# Altium integrated library Bpod_Controller_v5.IntLib: 11 symbols
Pins are listed as number, name and electrical type; pins without a type are passive.

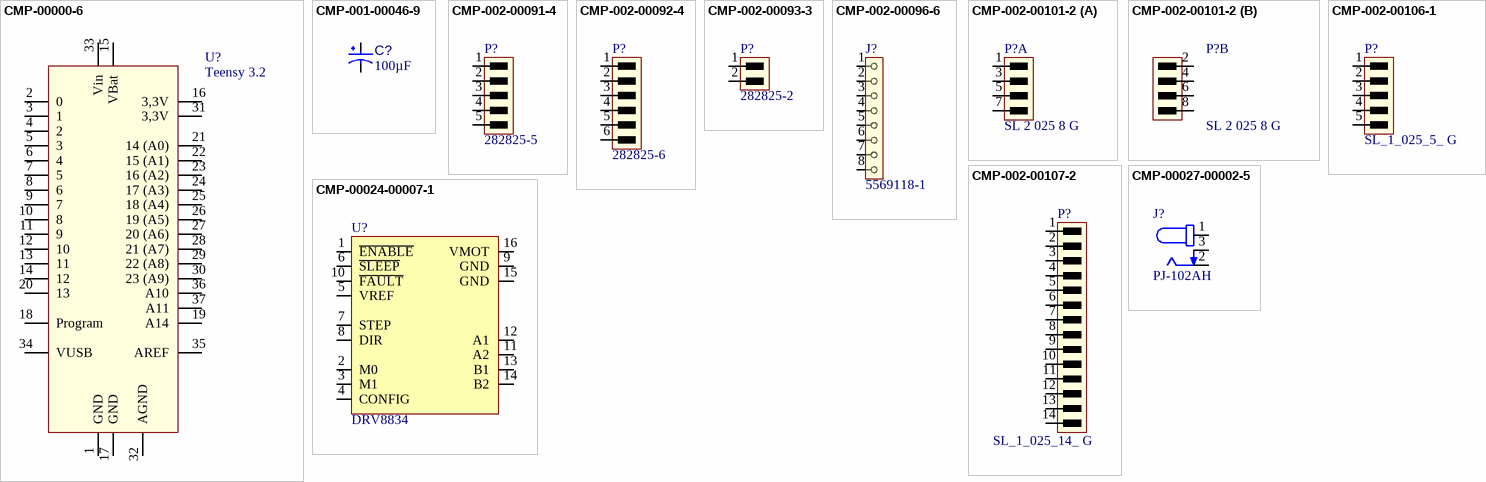
[diagram p0: symbols CMP-00000-6 to CMP-00027-00002-5]

## CMP-00000-6
designator U?, comment Teensy 3.2
Development Boards & Kits, ARM Teensy 3.2 and header; Manufacturer: Adafruit Industries; Manufacturer Part Number: 2756; Manufacturer: SparkFun; Manufacturer Part Number: DEV-13736; user: IBI-TAE; Component Type: Microcontroller
footprint New footprint 1
pins: 1 GND, 2 0, 3 1, 4 2, 5 3, 6 4, 7 5, 8 6, 9 7, 10 8, 11 9, 12 10, 13 11, 14 12, 15 VBat, 16 3,3V, 17 GND, 18 Program, 19 A14, 20 13, 21 14 (A0), 22 15 (A1), 23 16 (A2), 24 17 (A3), 25 18 (A4), 26 19 (A5), 27 20 (A6), 28 21 (A7), 29 22 (A8), 30 23 (A9), 31 3,3V, 32 AGND, 33 Vin (power), 34 VUSB, 35 AREF, 36 A10, 37 A11

## CMP-001-00046-9
designator C?, comment value 100µF  (hidden comment: TAJC107K016RNJ)
Standard Tantalum, 100 uF, +/- 10%, 16 V, -55 to 125 degC, 2312 (6032 Metric), RoHS, Tape and Reel; Manufacturer: AVX; Manufacturer: Kyocera / AVX; Voltage Rating: 16V; Resistance: 1Ohm; Package Quantity: 500; Max Operating Temperature: 125°C; Datasheet URL: http://datasheets.avx.com/TAJ.pdf; Case/Package: 2412; RoHS Compliant: True; Tolerance: 10%; Manufacturer URL: http://www.avx.com/; Packaging: TapeandReel; Package Reference: TAJ-C-2; Min Operating Temperature: -55°C; Package Description: 2-Pin Surface Mount Device, Body 6 x 3.25 mm; Mounting Technology: SM; ESR: 1Ohm; Capacitor Type: Tantalum; Datasheet Version: Feb-16; Manufacturer Part Number: TAJC107K016RNJ; Component Type: Capacitors
footprint AVX-TAJ-C-2_M (Molded Capacitor, 2-Leads, Body 6.2x3.4mm, IPC Low Density)
footprint AVX-TAJ-C-2_L (Molded Capacitor, 2-Leads, Body 6.2x3.4mm, IPC High Density)
footprint AVX-TAJ-C-2_N (Molded Capacitor, 2-Leads, Body 6.2x3.4mm, IPC Medium Density)
pins: 1, 2

## CMP-002-00091-4
designator P?, comment 282825-5
Strip Terminal Block, 15A, 1 Row(s), 1 Deck(s); Manufacturer: TE Connectivity / AMP; Connector Type: Pluggable Terminal Block; user: IBI-TAE; Gender: male; Voltage Rating: 300V; Pins: 5; Mounting Technology: Board; RoHS Compliant: Yes; Max Current Rating: 15A; Manufacturer Part Number: 282825-5; Component Type: Connectors
footprint 282825-4-Footprint-1
pins: 1, 2, 3, 4, 5

## CMP-002-00092-4
designator P?, comment 282825-6
Strip Terminal Block, 15A, 1 Row(s), 1 Deck(s); Manufacturer: TE Connectivity / AMP; Gender: male; Connector Type: Pluggable Terminal Block; Voltage Rating: 300V; user: IBI-TAE; Pins: 6; Max Current Rating: 15A; RoHS Compliant: Yes; Mounting Technology: Board; Manufacturer Part Number: 282825-6; Component Type: Connectors
footprint 282825-4-Footprint-1
pins: 1, 2, 3, 4, 5, 6

## CMP-002-00093-3
designator P?, comment 282825-2
Strip Terminal Block, 15A, 1 Row(s), 1 Deck(s); Manufacturer: TE Connectivity; Gender: male; Connector Type: Pluggable Terminal Block; user: IBI-TAE; Voltage Rating: 300V; RoHS Compliant: Yes; Max Current Rating: 15A; Mounting Technology: Board; Pins: 4; Manufacturer Part Number: 282825-2; Component Type: Connectors
footprint 282825-4-Footprint-1
pins: 1, 2

## CMP-002-00096-6
designator J?, comment 5569118-1
Telecom and Datacom Connector, 8 Contact(s), Female, Right Angle, Solder Terminal, Locking, Jack; Manufacturer: TE Connectivity; User: IBI-TAE; RoHS Compliant: Yes; Min Operating Temperature: -40°C; Mounting Technology: Panel,Board; Max Operating Temperature: 85°C; Connector Type: TELECOM AND DATACOM CONNECTOR; Case/Package: RJ45; Pins: 8; Manufacturer Part Number: 5569118-1; Component Type: Connectors
footprint 5569118-1-Footprint-1
pins: 1, 2, 3, 4, 5, 6, 7, 8

## CMP-002-00101-2
designator P?, comment SL 2 025 8 G
Fischer  SL 2 025 8 G, Stiftleiste, 2 Reiheb, 8 Pole, vergoldet; Manufacturer: Fischer Elektronik; Manufacturer Part Number: SL 2 025 72G; Number of Rows Loaded: 2; Connector Type: BOARD CONNECTOR; Gender: male; Number of Contacts: 8; user: IBI-TAE; Voltage Rating: 300V; Max Current Rating: 3A; Contact Finish - Mating: GOLD; Mounting Technology: Board; RoHS Compliant: Yes; Contact Gender: Male; Terminal Pitch: 2.54mm; Mounting Style: STRAIGHT; Contact Finish - Termination: GOLD; Pins: 6; Component Type: Connectors
footprint SL 2 025 2 G-Footprint-1
part A pins: 1, 3, 5, 7
part B pins: 2, 4, 6, 8

## CMP-002-00106-1
designator P?, comment SL_1_025_5_ G
Fischer SL_1_025_5_ G, Stiftleiste, 1 Reiheb, 5 Pole, vergoldet; Manufacturer: Fischer Elektronik; Manufacturer Part Number: SL 1/025/36G; Max Current Rating: 3A; Voltage Rating: 300V; Gender: male; user: IBI-TAE; Number of Rows Loaded: 1; Connector Type: BOARD CONNECTOR; Number of Contacts: 5; Mounting Style: STRAIGHT; Terminal Pitch: 2.54mm; Pins: 5; Contact Finish - Termination: GOLD; RoHS Compliant: Yes; Mounting Technology: Board; Contact Gender: Male; Contact Finish - Mating: GOLD; Component Type: Connectors
footprint SL_1_025_5_ G
pins: 1, 2, 3, 4, 5

## CMP-002-00107-2
designator P?, comment SL_1_025_14_ G
Fischer SL_1_025_14_ G, Stiftleiste, 1 Reiheb, 14 Pole, vergoldet; Manufacturer: Fischer Elektronik; Manufacturer Part Number: SL 1/025/36G; Max Current Rating: 3A; user: IBI-TAE; Voltage Rating: 300V; Connector Type: BOARD CONNECTOR; Number of Contacts: 14; Number of Rows Loaded: 1; Gender: male; Mounting Style: STRAIGHT; Contact Gender: Male; Terminal Pitch: 2.54mm; Pins: 14; RoHS Compliant: Yes; Mounting Technology: Board; Contact Finish - Mating: GOLD; Contact Finish - Termination: GOLD; Component Type: Connectors
footprint SL_1_025_14_ G
pins: 1, 2, 3, 4, 5, 6, 7, 8, 9, 10, 11, 12, 13, 14

## CMP-00024-00007-1
designator U?, comment DRV8834
DRV8834 Low-Voltage Stepper Motor Driver Carrier; Min Supply Voltage: 2,5V; Max current per phase: 2A; Continuous current per phase: 1,5A; user: IBI-TAE; Max Supply Voltage: 10,8V; website: https://www.pololu.com/product/2134; Pins: 16; Component Type: Drivers
footprint DRV8825 STEPPER MOTOR DRIVER CARRIER-Footprint-1
pins: 1 ~{ENABLE}, 2 M0, 3 M1, 4 CONFIG, 5 VREF, 6 ~{SLEEP}, 7 STEP, 8 DIR, 9 GND, 10 ~{FAULT}, 11 A2, 12 A1, 13 B1, 14 B2, 15 GND, 16 VMOT "/ENABLE"

## CMP-00027-00002-5
designator J?, comment PJ-102AH
12V, 2.5A, 2mm Dia; Manufacturer: Same Sky; user: IBI-TAE; Pins: 3; Mounting Technology: Board; RoHS Compliant: Yes; Manufacturer Part Number: PJ-102AH; Component Type: Connectors
footprint CUI_PJ-102AH
pins: 1, 2, 3